# EAGLE library part AY-3-8910 (library ay3891x)
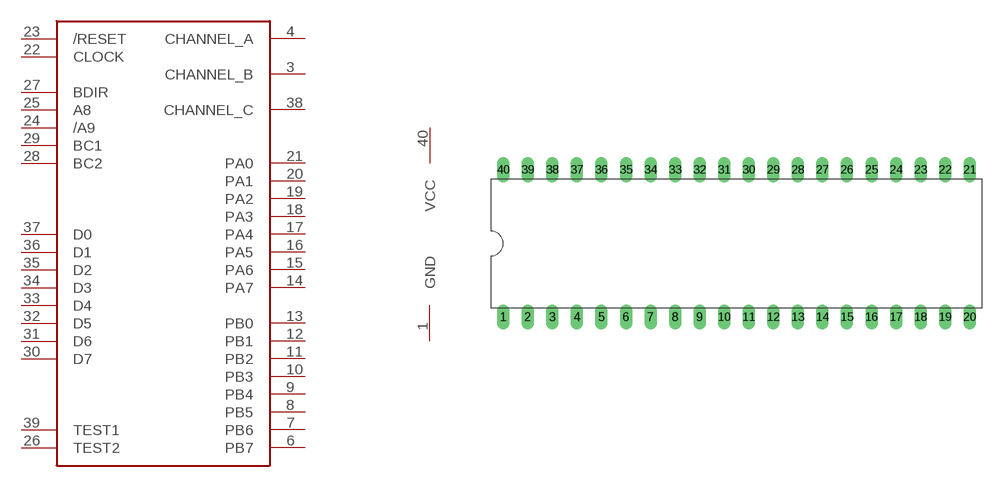
[diagram p0: symbol with the pads of DIL40; footprint DIL40]

Designator prefix -; gates G$1=AY-3-8910 G$2=PWR

## AY-3-8910  [DIL40]
1  G$2:GND  pwr
3  G$1:CHANNEL_B  out
4  G$1:CHANNEL_A  out
6  G$1:PB7
7  G$1:PB6
8  G$1:PB5
9  G$1:PB4
10  G$1:PB3
11  G$1:PB2
12  G$1:PB1
13  G$1:PB0
14  G$1:PA7
15  G$1:PA6
16  G$1:PA5
17  G$1:PA4
18  G$1:PA3
19  G$1:PA2
20  G$1:PA1
21  G$1:PA0
22  G$1:CLOCK  in
23  G$1:/RESET  in
24  G$1:/A9  in
25  G$1:A8  in
26  G$1:TEST2  in
27  G$1:BDIR  in
28  G$1:BC2  in
29  G$1:BC1  in
30  G$1:D7
31  G$1:D6
32  G$1:D5
33  G$1:D4
34  G$1:D3
35  G$1:D2
36  G$1:D1
37  G$1:D0
38  G$1:CHANNEL_C  out
39  G$1:TEST1  in
40  G$2:VCC  pwr

## Footprint DIL40 (pad centres in mm)
drill 0.8 long: 1 -24.13,-7.62; 2 -21.59,-7.62; 3 -19.05,-7.62; 4 -16.51,-7.62; 5 -13.97,-7.62; 6 -11.43,-7.62; 7 -8.89,-7.62; 8 -6.35,-7.62; 9 -3.81,-7.62; 10 -1.27,-7.62; 11 1.27,-7.62; 12 3.81,-7.62; 13 6.35,-7.62; 14 8.89,-7.62; 15 11.43,-7.62; 16 13.97,-7.62; 17 16.51,-7.62; 18 19.05,-7.62; 19 21.59,-7.62; 20 24.13,-7.62; 21 24.13,7.62; 22 21.59,7.62; 23 19.05,7.62; 24 16.51,7.62; 25 13.97,7.62; 26 11.43,7.62; 27 8.89,7.62; 28 6.35,7.62; 29 3.81,7.62; 30 1.27,7.62; 31 -1.27,7.62; 32 -3.81,7.62; 33 -6.35,7.62; 34 -8.89,7.62; 35 -11.43,7.62; 36 -13.97,7.62; 37 -16.51,7.62; 38 -19.05,7.62; 39 -21.59,7.62; 40 -24.13,7.62